# Altium schematic symbol library SCH - POWER - LINEAR VREG - TI TPS73525_DRV_6.SchLib: 1 symbol
Pins are listed as number, name and electrical type; pins without a type are passive.

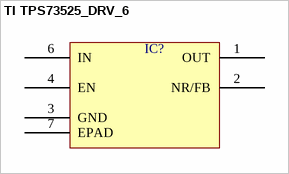
[diagram p0: symbol TI TPS73525_DRV_6]

## TI TPS73525_DRV_6
designator IC?  (value not drawn)
pins: 1 OUT, 2 NR/FB, 3 GND, 4 EN, 6 IN, 7 EPAD